# EAGLE library part PCA9635 (library JeeLabs)
16-bit LED driver I2C
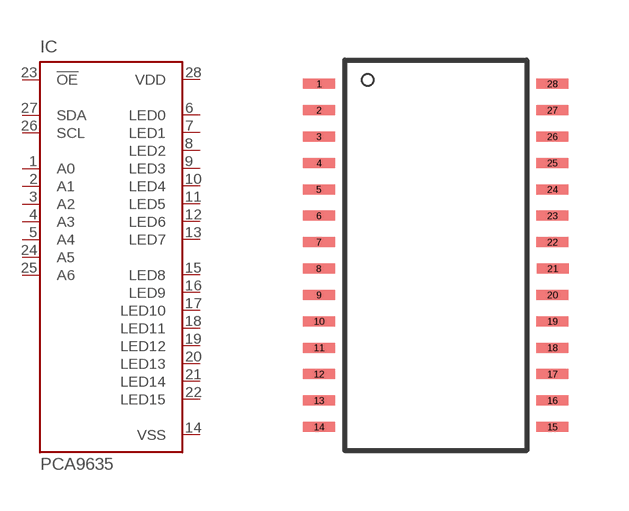
[diagram p22: symbol with the pads of TSSOP28; footprint TSSOP28]

Designator prefix IC

## PCA9635T  [TSSOP28]
1  A0  in
2  A1  in
3  A2  in
4  A3  in
5  A4  in
6  LED0  out
7  LED1  out
8  LED2  out
9  LED3  out
10  LED4  out
11  LED5  out
12  LED6  out
13  LED7  out
14  VSS  pwr
15  LED8  out
16  LED9  out
17  LED10  out
18  LED11  out
19  LED12  out
20  LED13  out
21  LED14  out
22  LED15  out
23  !OE  out
24  A5  in
25  A6  in
26  SCL  in
27  SDA
28  VDD  pwr

## Footprint TSSOP28 (pad centres in mm)
smd 0.8 x 0.25: 1 -2.921,4.623; 2 -2.921,3.962; 3 -2.921,3.302; 4 -2.921,2.642; 5 -2.921,1.981; 6 -2.921,1.321; 7 -2.921,0.66; 8 -2.927,0; 9 -2.921,-0.66; 10 -2.921,-1.321; 11 -2.921,-1.981; 12 -2.921,-2.642; 13 -2.921,-3.302; 14 -2.921,-3.962; 15 2.921,-3.962; 16 2.921,-3.302; 17 2.921,-2.642; 18 2.921,-1.981; 19 2.921,-1.321; 20 2.921,-0.66; 21 2.927,0; 22 2.921,0.66; 23 2.921,1.321; 24 2.921,1.981; 25 2.921,2.642; 26 2.921,3.302; 27 2.921,3.962; 28 2.921,4.623